# Altium footprint library Proto-Pi.PCBLIB: 27 footprints (part 2 of 2)
Each footprint in its own frame and in the unit in brackets; x right, y up, seen from the top. Pads: shape width x height; smd on the part's side, far side on the other; paste and mask are expansions set on the pad; w line width, h text height; cw(c..) or ccw(c..) is an arc to the next point about the centre after c.
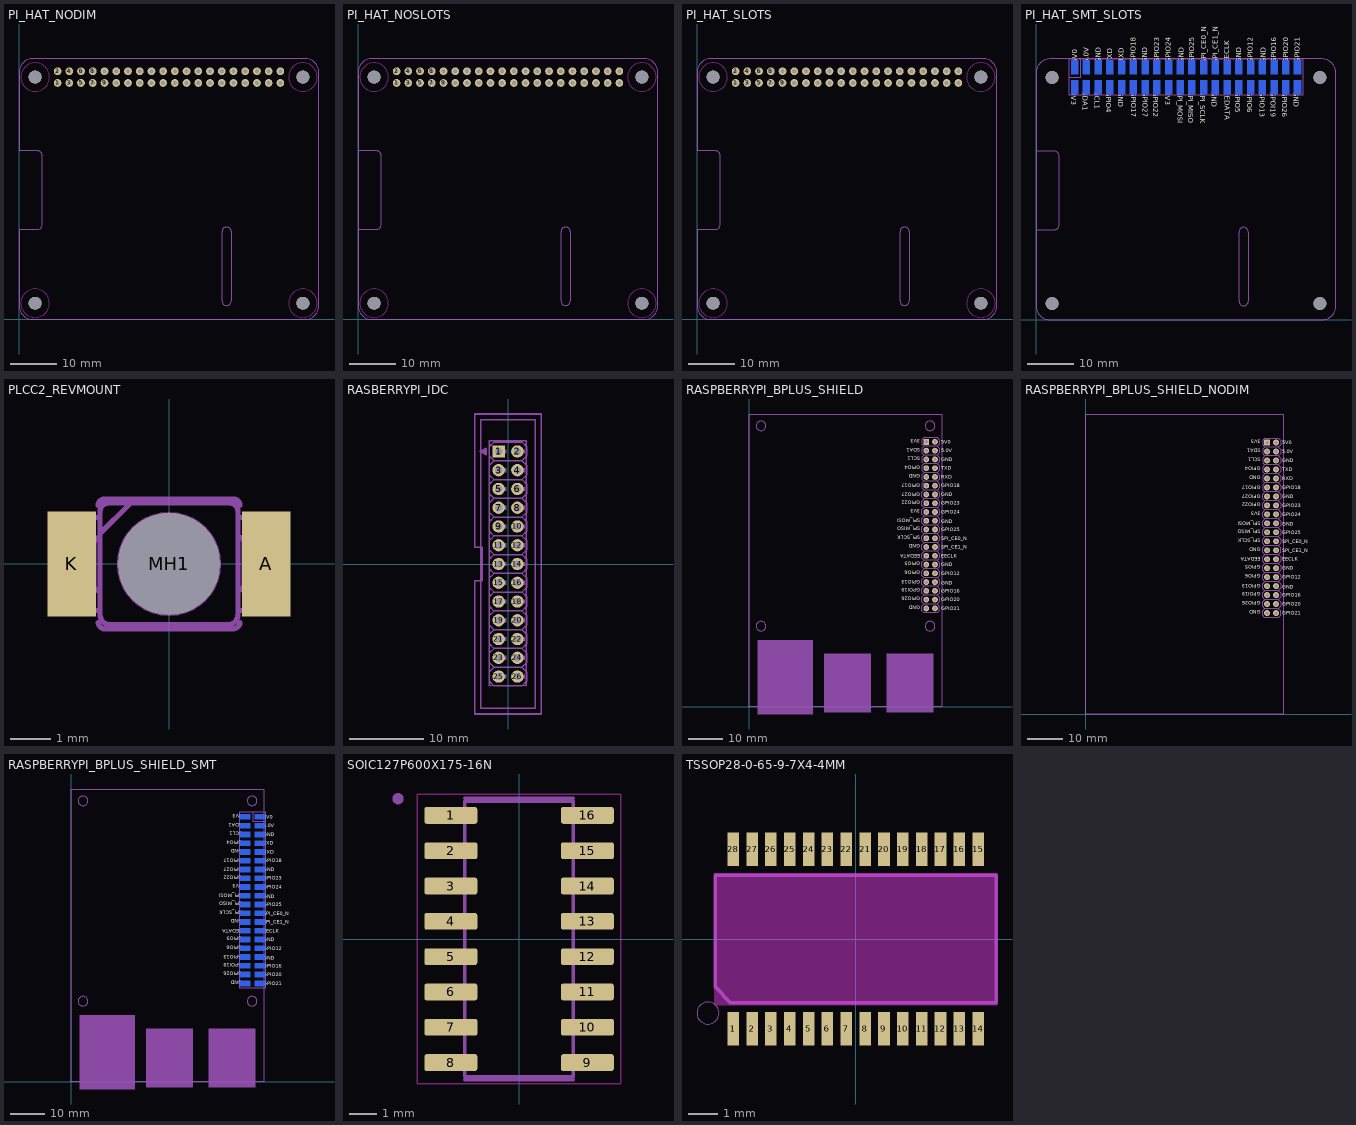
[diagram p1: the footprints below, top view; thin cyan lines are the x and y axes]

## PI_HAT_NODIM [mil]
pads (44):
  round 66 hole 35.43: 1(329.53,2016.93) 2(329.53,2116.93) 3(429.53,2016.93) 4(429.53,2116.93) 5(529.53,2016.93) 6(529.53,2116.93) 7(629.53,2016.93) 8(629.53,2116.93) 9(729.53,2016.93) 10(729.53,2116.93) 11(829.53,2016.93) 12(829.53,2116.93) 13(929.53,2016.93) 14(929.53,2116.93) 15(1029.53,2016.93) 16(1029.53,2116.93) 17(1129.53,2016.93) 18(1129.53,2116.93) 19(1229.53,2016.93) 20(1229.53,2116.93) 21(1329.53,2016.93) 22(1329.53,2116.93) 23(1429.53,2016.93) 24(1429.53,2116.93) 25(1529.53,2016.93) 26(1529.53,2116.93) 27(1629.53,2016.93) 28(1629.53,2116.93) 29(1729.53,2016.93) 30(1729.53,2116.93) 31(1829.53,2016.93) 32(1829.53,2116.93) 33(1929.53,2016.93) 34(1929.53,2116.93) 35(2029.53,2016.93) 36(2029.53,2116.93) 37(2129.53,2016.93) 38(2129.53,2116.93) 39(2229.53,2016.93) 40(2229.53,2116.93)
  round 110.24 hole 110.24 unplated: MH1(137.8,137.8) MH2(137.8,2066.93) MH3(2421.26,2066.93) MH4(2421.26,137.8)
Top keep-out:
  circle w0: c137.8,137.8 r122.05
  circle w0: c2421.26,137.8 r122.05
  circle w0: c137.8,2066.93 r122.05
  circle w0: c2421.26,2066.93 r122.05
tPlace:
  lines w0: 0,118.11 0,767.72 157.48,767.72 ccw(c157.48,807.09) 196.85,807.09 196.85,1397.64 ccw(c157.48,1397.64) 157.48,1437.01 0,1437.01 0,2106.3 cw(c118.11,2106.3) 118.11,2224.41 2440.94,2224.41 cw(c2440.95,2106.3) 2559.06,2106.3 2559.06,118.11 cw(c2440.95,118.11) 2440.94,0 118.11,0 cw(c118.11,118.11) 0,118.11 ; 1732.28,157.48 ccw(c1771.65,157.48) 1771.65,118.11 ccw(c1771.65,157.48) 1811.02,157.48 1811.02,748.03 ccw(c1771.65,748.03) 1771.65,787.4 ccw(c1771.65,748.03) 1732.28,748.03 1732.28,157.48

## PI_HAT_NOSLOTS [mil]
pads (44):
  round 66 hole 35.43: 1(329.53,2016.93) 2(329.53,2116.93) 3(429.53,2016.93) 4(429.53,2116.93) 5(529.53,2016.93) 6(529.53,2116.93) 7(629.53,2016.93) 8(629.53,2116.93) 9(729.53,2016.93) 10(729.53,2116.93) 11(829.53,2016.93) 12(829.53,2116.93) 13(929.53,2016.93) 14(929.53,2116.93) 15(1029.53,2016.93) 16(1029.53,2116.93) 17(1129.53,2016.93) 18(1129.53,2116.93) 19(1229.53,2016.93) 20(1229.53,2116.93) 21(1329.53,2016.93) 22(1329.53,2116.93) 23(1429.53,2016.93) 24(1429.53,2116.93) 25(1529.53,2016.93) 26(1529.53,2116.93) 27(1629.53,2016.93) 28(1629.53,2116.93) 29(1729.53,2016.93) 30(1729.53,2116.93) 31(1829.53,2016.93) 32(1829.53,2116.93) 33(1929.53,2016.93) 34(1929.53,2116.93) 35(2029.53,2016.93) 36(2029.53,2116.93) 37(2129.53,2016.93) 38(2129.53,2116.93) 39(2229.53,2016.93) 40(2229.53,2116.93)
  round 110.24 hole 110.24 unplated: MH1(137.8,137.8) MH2(137.8,2066.93) MH3(2421.26,2066.93) MH4(2421.26,137.8)
Top keep-out:
  circle w0: c137.8,137.8 r122.05
  circle w0: c2421.26,137.8 r122.05
  circle w0: c137.8,2066.93 r122.05
  circle w0: c2421.26,2066.93 r122.05
Dimension:
  lines w0: 0,118.11 0,2106.3 cw(c118.11,2106.3) 118.11,2224.41 2440.94,2224.41 cw(c2440.95,2106.3) 2559.06,2106.3 2559.06,118.11 cw(c2440.95,118.11) 2440.94,0 118.11,0 cw(c118.11,118.11) 0,118.11
Reference:
  lines w5: 0,1437.01 157.48,1437.01 cw(c157.48,1397.64) 196.85,1397.64 196.85,807.09 cw(c157.48,807.09) 157.48,767.72 3.94,767.72 ; 1732.28,157.48 ccw(c1771.65,157.48) 1771.65,118.11 ccw(c1771.65,157.48) 1811.02,157.48 1811.02,748.03 ccw(c1771.65,748.03) 1771.65,787.4 ccw(c1771.65,748.03) 1732.28,748.03 1732.28,157.48

## PI_HAT_SLOTS [mil]
pads (44):
  round 66 hole 35.43: 1(329.53,2016.93) 2(329.53,2116.93) 3(429.53,2016.93) 4(429.53,2116.93) 5(529.53,2016.93) 6(529.53,2116.93) 7(629.53,2016.93) 8(629.53,2116.93) 9(729.53,2016.93) 10(729.53,2116.93) 11(829.53,2016.93) 12(829.53,2116.93) 13(929.53,2016.93) 14(929.53,2116.93) 15(1029.53,2016.93) 16(1029.53,2116.93) 17(1129.53,2016.93) 18(1129.53,2116.93) 19(1229.53,2016.93) 20(1229.53,2116.93) 21(1329.53,2016.93) 22(1329.53,2116.93) 23(1429.53,2016.93) 24(1429.53,2116.93) 25(1529.53,2016.93) 26(1529.53,2116.93) 27(1629.53,2016.93) 28(1629.53,2116.93) 29(1729.53,2016.93) 30(1729.53,2116.93) 31(1829.53,2016.93) 32(1829.53,2116.93) 33(1929.53,2016.93) 34(1929.53,2116.93) 35(2029.53,2016.93) 36(2029.53,2116.93) 37(2129.53,2016.93) 38(2129.53,2116.93) 39(2229.53,2016.93) 40(2229.53,2116.93)
  round 110.24 hole 110.24 unplated: MH1(137.8,137.8) MH2(137.8,2066.93) MH3(2421.26,2066.93) MH4(2421.26,137.8)
Top keep-out:
  circle w0: c137.8,137.8 r122.05
  circle w0: c2421.26,137.8 r122.05
  circle w0: c137.8,2066.93 r122.05
  circle w0: c2421.26,2066.93 r122.05
Dimension:
  lines w0: 0,118.11 0,767.72 157.48,767.72 ccw(c157.48,807.09) 196.85,807.09 196.85,1397.64 ccw(c157.48,1397.64) 157.48,1437.01 0,1437.01 0,2106.3 cw(c118.11,2106.3) 118.11,2224.41 2440.94,2224.41 cw(c2440.95,2106.3) 2559.06,2106.3 2559.06,118.11 cw(c2440.95,118.11) 2440.94,0 118.11,0 cw(c118.11,118.11) 0,118.11 ; 1732.28,157.48 ccw(c1771.65,157.48) 1771.65,118.11 ccw(c1771.65,157.48) 1811.02,157.48 1811.02,748.03 ccw(c1771.65,748.03) 1771.65,787.4 ccw(c1771.65,748.03) 1732.28,748.03 1732.28,157.48

## PI_HAT_SMT_SLOTS [mil]
pads (44):
  rect 60x120 smd far side: 1(330.51,1982.24) 2(330.51,2152.24) 3(430.51,1982.24) 4(430.51,2152.24) 5(530.51,1982.24) 6(530.51,2152.24) 7(630.51,1982.24) 8(630.51,2152.24) 9(730.51,1982.24) 10(730.51,2152.24) 11(830.51,1982.24) 12(830.51,2152.24) 13(930.51,1982.24) 14(930.51,2152.24) 15(1030.51,1982.24) 16(1030.51,2152.24) 17(1130.51,1982.24) 18(1130.51,2152.24) 19(1230.51,1982.24) 20(1230.51,2152.24) 21(1330.51,1982.24) 22(1330.51,2152.24) 23(1430.51,1982.24) 24(1430.51,2152.24) 25(1530.51,1982.24) 26(1530.51,2152.24) 27(1630.51,1982.24) 28(1630.51,2152.24) 29(1730.51,1982.24) 30(1730.51,2152.24) 31(1830.51,1982.24) 32(1830.51,2152.24) 33(1930.51,1982.24) 34(1930.51,2152.24) 35(2030.51,1982.24) 36(2030.51,2152.24) 37(2130.51,1982.24) 38(2130.51,2152.24) 39(2230.51,1982.24) 40(2230.51,2152.24)
  round 110.24 hole 110.24 unplated: MH1(137.8,137.8) MH2(137.8,2066.93) MH3(2421.26,2066.93) MH4(2421.26,137.8)
Top Overlay:
  text "5V0" at 350.51,2187.52 h42.5
  text "5.0V" at 450.51,2187.52 h42.5
  text "GND" at 550.51,2187.52 h42.5
  text "TXD" at 650.51,2187.52 h42.5
  text "RXD" at 750.51,2187.52 h42.5
  text "GPIO18" at 850.51,2187.52 h42.5
  text "GND" at 950.51,2187.52 h42.5
  text "GPIO23" at 1050.51,2187.52 h42.5
  text "GPIO24" at 1150.51,2187.52 h42.5
  text "GND" at 1260.51,2187.52 h42.5
  text "GPIO25" at 1350.51,2187.52 h42.5
  text "SPI_CE0_N" at 1450.51,2187.52 h42.5
  text "SPI_CE1_N" at 1550.51,2187.52 h42.5
  text "3V3" at 300.51,1947.52 h42.5
  text "SDA1" at 400.51,1947.52 h42.5
  text "SCL1" at 500.51,1947.52 h42.5
  text "GPIO4" at 600.51,1947.52 h42.5
  text "GND" at 700.51,1947.52 h42.5
  text "GPIO17" at 810.51,1947.52 h42.5
  text "GPIO27" at 910.51,1947.52 h42.5
  text "GPIO22" at 1000.51,1947.52 h42.5
  text "3V3" at 1100.51,1947.52 h42.5
  text "SPI_MOSI" at 1210.51,1947.52 h42.5
  text "SPI_MISO" at 1300.51,1947.52 h42.5
  text "SPI_SCLK" at 1400.51,1947.52 h42.5
  text "GND" at 1500.51,1947.52 h42.5
  text "EECLK" at 1650.51,2187.52 h42.5
  text "GND" at 1750.51,2187.52 h42.5
  text "GPIO12" at 1850.51,2187.52 h42.5
  text "GND" at 1960.51,2187.52 h42.5
  text "GPIO16" at 2050.51,2187.52 h42.5
  text "GPIO20" at 2150.51,2187.52 h42.5
  text "GPIO21" at 2250.51,2187.52 h42.5
  text "EEDATA" at 1610.51,1947.52 h42.5
  text "GPIO5" at 1700.51,1947.52 h42.5
  text "GPIO6" at 1800.51,1947.52 h42.5
  text "GPIO13" at 1910.51,1947.52 h42.5
  text "GPOI19" at 2000.51,1947.52 h42.5
  text "GPIO26" at 2100.51,1947.52 h42.5
  text "GND" at 2200.51,1947.52 h42.5
Dimension:
  lines w0: 3.94,767.72 157.48,767.72 ccw(c157.48,807.09) 196.85,807.09 196.85,1397.64 ccw(c157.48,1397.64) 157.48,1437.01 0,1437.01 ; 0,1437.01 0,2106.3 cw(c118.11,2106.3) 118.11,2224.41 2440.94,2224.41 cw(c2440.95,2106.3) 2559.06,2106.3 2559.06,118.11 cw(c2440.95,118.11) 2440.94,0 118.11,0 cw(c118.11,118.11) 0,118.11 0,1437.01 ; 1732.28,157.48 ccw(c1771.65,157.48) 1771.65,118.11 ccw(c1771.65,157.48) 1811.02,157.48 1811.02,748.03 ccw(c1771.65,748.03) 1771.65,787.4 ccw(c1771.65,748.03) 1732.28,748.03 1732.28,157.48
tDocu:
  drawing of 40 lines, arcs and shapes, not listed
bPlace:
  lines w8: 280.51,2067.24 280.51,2222.36 380.91,2221.97 ; 280.51,2067.24 280.51,1917.24 2280.51,1917.24 2281.3,2221.97 380.91,2221.97 ; 280.51,2067.24 380.51,2067.24 380.91,2221.97

## PLCC2_REVMOUNT [mil]
pads (3):
  rect 47.24x102.36 smd: A(94.49,0) K(-94.49,0)
  round 98.43 hole 98.43 unplated: MH1(0,0)
tDocu:
  circle w5: c0,0 r48.06
  lines w5: -66.93,-45.28 -66.93,-49.21 ccw(c-57.09,-49.22) -57.09,-59.06 57.09,-59.06 ccw(c57.09,-49.22) 66.93,-49.21 66.93,-45.28 ; -66.93,-45.28 -104.33,-45.28 -104.33,45.28 -66.93,45.28 ; -66.93,-45.28 -66.93,-25.59 ; -66.93,-25.59 -66.93,25.59 ; -66.93,-25.59 -68.9,-25.59 cw(c-68.89,-21.66) -72.83,-21.65 -72.83,19.69 cw(c-66.93,19.69) -66.93,25.59 ; -66.93,25.59 -66.93,29.53 ; -66.93,29.53 -66.93,45.28 ; -66.93,29.53 -37.4,59.06 ; -66.93,45.28 -66.93,51.18 cw(c-59.05,51.19) -59.06,59.06 -37.4,59.06 ; -37.4,59.06 59.06,59.06 cw(c59.05,51.19) 66.93,51.18 66.93,45.28 ; 66.93,-45.28 106.3,-45.28 106.3,45.28 66.93,45.28 ; 66.93,-45.28 66.93,-25.59 ; 66.93,-25.59 66.93,25.59 ; 66.93,-25.59 ccw(c66.93,-19.69) 72.83,-19.69 72.83,21.65 ccw(c68.89,21.66) 68.9,25.59 66.93,25.59 ; 66.93,25.59 66.93,45.28 ; -31.5,0 ccw(c0,0) 0,-31.5 ccw(c0,0) 31.5,0 ccw(c0,0) 0,31.5 ccw(c0,0) -31.5,0
tPlace:
  lines w5: -68.9,-57.09 ccw(c-62.01,-56.1) -61.02,-62.99 61.02,-62.99 ccw(c62.01,-56.1) 68.9,-57.09 ; -68.9,57.09 cw(c-62.99,57.09) -62.99,62.99 62.99,62.99 cw(c62.99,57.09) 68.9,57.09

## RASBERRYPI_IDC [mil]
pads (26):
  rect 66x66 / inner round 60.98 / far side rect 66x66 hole 39.37: 1(-50,600)
  round 66 hole 39.37: 2(50,600) 3(-50,500) 4(50,500) 5(-50,400) 6(50,400) 7(-50,300) 8(50,300) 9(-50,200) 10(50,200) 11(-50,100) 12(50,100) 13(-50,0) 14(50,0) 15(-50,-100) 16(50,-100) 17(-50,-200) 18(50,-200) 19(-50,-300) 20(50,-300) 21(-50,-400) 22(50,-400) 23(-50,-500) 24(50,-500) 25(-50,-600) 26(50,-600)
tDocu:
  region: -30,610 -10,610 -10,590 -30,590
  region: 70,610 90,610 90,590 70,590
  region: 70,510 90,510 90,490 70,490
  region: -30,510 -10,510 -10,490 -30,490
  region: 70,410 90,410 90,390 70,390
  region: -30,410 -10,410 -10,390 -30,390
  region: 70,310 90,310 90,290 70,290
  region: 70,210 90,210 90,190 70,190
  region: 70,110 90,110 90,90 70,90
  region: -30,310 -10,310 -10,290 -30,290
  region: -30,210 -10,210 -10,190 -30,190
  region: -30,110 -10,110 -10,90 -30,90
  region: 70,10 90,10 90,-10 70,-10
  region: -30,10 -10,10 -10,-10 -30,-10
  region: 70,-90 90,-90 90,-110 70,-110
  region: -30,-90 -10,-90 -10,-110 -30,-110
  region: 70,-190 90,-190 90,-210 70,-210
  region: -30,-190 -10,-190 -10,-210 -30,-210
  region: 70,-290 90,-290 90,-310 70,-310
  region: -30,-290 -10,-290 -10,-310 -30,-310
  region: 70,-390 90,-390 90,-410 70,-410
  region: -30,-390 -10,-390 -10,-410 -30,-410
  region: 70,-490 90,-490 90,-510 70,-510
  region: -30,-490 -10,-490 -10,-510 -30,-510
  region: 70,-590 90,-590 90,-610 70,-610
  region: -30,-590 -10,-590 -10,-610 -30,-610
  lines w5: -99.92,-650 96.93,-650
  lines w8: -99.92,-650 -99.92,657.09 96.93,657.09 96.93,-650 ; -145.67,-768.11 -145.67,768.11 145.67,768.11 145.67,-768.11 -145.67,-768.11
tValues:
  text "5V0" at 220,580 h77.5
  text "DNC" at 220,480 h77.5
  text "GND" at 220,380 h77.5
  text "TXD" at 220,280 h77.5
  text "RXD" at 220,180 h77.5
  text "GPIO1" at 220,80 h77.5
  text "DNC" at 220,-20 h77.5
  text "GPIO4" at 220,-120 h77.5
  text "GPIO5" at 220,-220 h77.5
  text "DNC" at 220,-330 h77.5
  text "GPIO6" at 220,-420 h77.5
  text "SPI_CE0_N" at 220,-520 h77.5
  text "SPI_CE1_N" at 220,-620 h77.5
  text "3V3" at -220,630 h77.5
  text "SDA0" at -220,530 h77.5
  text "SCL0" at -220,430 h77.5
  text "GPIO7" at -220,330 h77.5
  text "DNC" at -220,230 h77.5
  text "GPIO0" at -220,120 h77.5
  text "GPIO2" at -220,20 h77.5
  text "GPIO3" at -220,-70 h77.5
  text "DNC" at -220,-170 h77.5
  text "SPI_MOSI" at -220,-280 h77.5
  text "SPI_MISO" at -220,-370 h77.5
  text "SPI_SCLK" at -220,-470 h77.5
  text "DNC" at -220,-570 h77.5
tPlace:
  region: -134,610 -124,610 -124,590 -134,590
  region: -124,615 -119,615 -119,600 -124,600
  region: -124,600 -119,600 -119,585 -124,585
  region: -142,605 -132,605 -132,595 -142,595
  lines w8: -140,600 -150,600 ; -150,600 -117,583 -117,617 -150,600 ; -75,-550 -100,-575 -100,-625 -75,-650 75,-650 100,-625 100,-575 75,-550 ; -75,-550 -100,-525 -100,-475 -75,-450 ; -75,-550 75,-550 ; -75,-450 -100,-425 -100,-375 -75,-350 ; -75,-450 75,-450 ; -75,-350 -100,-325 -100,-275 -75,-250 ; -75,-350 75,-350 ; -75,-250 -100,-225 -100,-175 -75,-150 ; -75,-250 75,-250 ; -75,-150 -100,-125 -100,-75 -75,-50 ; -75,-150 75,-150 ; -75,-50 -100,-25 -100,25 -75,50 ; -75,-50 75,-50 ; -75,50 -100,75 -100,125 -75,150 ; -75,50 75,50 ; -75,150 -100,175 -100,225 -75,250 ; -75,150 75,150 ; -75,250 -100,275 -100,325 -75,350 ; -75,250 75,250 ; -75,350 -100,375 -100,425 -75,450 ; -75,350 75,350 ; -75,450 -100,475 -100,525 -75,550 ; -75,450 75,450 ; -75,550 -100,575 -100,625 -75,650 75,650 100,625 100,575 75,550 ; -75,550 75,550 ; 75,-550 100,-525 100,-475 75,-450 ; 75,-450 100,-425 100,-375 75,-350 ; 75,-350 100,-325 100,-275 75,-250 ; 75,-250 100,-225 100,-175 75,-150 ; 75,-150 100,-125 100,-75 75,-50 ; 75,-50 100,-25 100,25 75,50 ; 75,50 100,75 100,125 75,150 ; 75,150 100,175 100,225 75,250 ; 75,250 100,275 100,325 75,350 ; 75,350 100,375 100,425 75,450 ; 75,450 100,475 100,525 75,550 ; -177.17,-799.61 177.17,-799.61 177.17,799.61 -177.17,799.61 -177.17,88.58 -137.8,88.58 -137.8,-88.58 -177.17,-88.58 -177.17,-799.61
  text "1" at -100,745 h93

## RASPBERRYPI_BPLUS_SHIELD [mil]
pads (40):
  rect 66x66 / inner round 60.98 / far side rect 66x66 hole 39.37: 1(2020.28,3025)
  round 66 hole 39.37: 2(2120.28,3025) 3(2020.28,2925) 4(2120.28,2925) 5(2020.28,2825) 6(2120.28,2825) 7(2020.28,2725) 8(2120.28,2725) 9(2020.28,2625) 10(2120.28,2625) 11(2020.28,2525) 12(2120.28,2525) 13(2020.28,2425) 14(2120.28,2425) 15(2020.28,2325) 16(2120.28,2325) 17(2020.28,2225) 18(2120.28,2225) 19(2020.28,2125) 20(2120.28,2125) 21(2020.28,2025) 22(2120.28,2025) 23(2020.28,1925) 24(2120.28,1925) 25(2020.28,1825) 26(2120.28,1825) 27(2020.28,1725) 28(2120.28,1725) 29(2020.28,1625) 30(2120.28,1625) 31(2020.28,1525) 32(2120.28,1525) 33(2020.28,1425) 34(2120.28,1425) 35(2020.28,1325) 36(2120.28,1325) 37(2020.28,1225) 38(2120.28,1225) 39(2020.28,1125) 40(2120.28,1125)
Top Overlay:
  text "5V0" at 2190.28,3005 h42.5
  text "5.0V" at 2190.28,2905 h42.5
  text "GND" at 2190.28,2805 h42.5
  text "TXD" at 2190.28,2705 h42.5
  text "RXD" at 2190.28,2605 h42.5
  text "GPIO18" at 2190.28,2505 h42.5
  text "GND" at 2190.28,2405 h42.5
  text "GPIO23" at 2190.28,2305 h42.5
  text "GPIO24" at 2190.28,2205 h42.5
  text "GND" at 2190.28,2095 h42.5
  text "GPIO25" at 2190.28,2005 h42.5
  text "SPI_CE0_N" at 2190.28,1905 h42.5
  text "SPI_CE1_N" at 2190.28,1805 h42.5
  text "3V3" at 1950.28,3055 h42.5
  text "SDA1" at 1950.28,2955 h42.5
  text "SCL1" at 1950.28,2855 h42.5
  text "GPIO4" at 1950.28,2755 h42.5
  text "GND" at 1950.28,2655 h42.5
  text "GPIO17" at 1950.28,2545 h42.5
  text "GPIO27" at 1950.28,2445 h42.5
  text "GPIO22" at 1950.28,2355 h42.5
  text "3V3" at 1950.28,2255 h42.5
  text "SPI_MOSI" at 1950.28,2145 h42.5
  text "SPI_MISO" at 1950.28,2055 h42.5
  text "SPI_SCLK" at 1950.28,1955 h42.5
  text "GND" at 1950.28,1855 h42.5
  text "EECLK" at 2190.28,1705 h42.5
  text "GND" at 2190.28,1605 h42.5
  text "GPIO12" at 2190.28,1505 h42.5
  text "GND" at 2190.28,1395 h42.5
  text "GPIO16" at 2190.28,1305 h42.5
  text "GPIO20" at 2190.28,1205 h42.5
  text "GPIO21" at 2190.28,1105 h42.5
  text "EEDATA" at 1950.28,1745 h42.5
  text "GPIO5" at 1950.28,1655 h42.5
  text "GPIO6" at 1950.28,1555 h42.5
  text "GPIO13" at 1950.28,1445 h42.5
  text "GPOI19" at 1950.28,1355 h42.5
  text "GPIO26" at 1950.28,1255 h42.5
  text "GND" at 1950.28,1155 h42.5
Dimension:
  lines w5: 0,0 0,3343 2200,3343 2200,0 0,0
tDocu:
  drawing of 44 lines, arcs and shapes, not listed
bDocu:
  region: 100,-80 100,760 725,760 725,-80
  region: 1570,-60 1570,610 2100,610 2100,-60
  region: 855,-60 855,610 1385,610 1385,-60
tPlace:
  lines w6: 1995.28,1075 1970.28,1100 1970.28,1150 1995.28,1175 1970.28,1200 1970.28,1250 1995.28,1275 1970.28,1300 1970.28,1350 1995.28,1375 1970.28,1400 1970.28,1450 1995.28,1475 1970.28,1500 1970.28,1550 1995.28,1575 1970.28,1600 1970.28,1650 1995.28,1675 1970.28,1700 1970.28,1750 1995.28,1775 1970.28,1800 1970.28,1850 1995.28,1875 1970.28,1900 1970.28,1950 1995.28,1975 1970.28,2000 1970.28,2050 1995.28,2075 1970.28,2100 1970.28,2150 1995.28,2175 1970.28,2200 1970.28,2250 1995.28,2275 1970.28,2300 1970.28,2350 1995.28,2375 1970.28,2400 1970.28,2450 1995.28,2475 1970.28,2500 1970.28,2550 1995.28,2575 1970.28,2600 1970.28,2650 1995.28,2675 1970.28,2700 1970.28,2750 1995.28,2775 1970.28,2800 1970.28,2850 1995.28,2875 1970.28,2900 1970.28,2950 1995.28,2975 1970.28,3000 1970.28,3050 1995.28,3075
  lines w8: 1995.28,1075 2145.28,1075 2170.28,1100 2170.28,1150 2145.28,1175 ; 1995.28,1175 2145.28,1175 ; 1995.28,1275 2145.28,1275 ; 1995.28,1375 2145.28,1375 ; 1995.28,1475 2145.28,1475 ; 1995.28,1575 2145.28,1575 ; 1995.28,1675 2145.28,1675 ; 1995.28,1775 2145.28,1775 ; 1995.28,1875 2145.28,1875 ; 1995.28,1975 2145.28,1975 ; 1995.28,2075 2145.28,2075 ; 1995.28,2175 2145.28,2175 ; 1995.28,2275 2145.28,2275 ; 1995.28,2375 2145.28,2375 ; 1995.28,2475 2145.28,2475 ; 1995.28,2575 2145.28,2575 ; 1995.28,2675 2145.28,2675 ; 1995.28,2775 2145.28,2775 ; 1995.28,2875 2145.28,2875 ; 1995.28,2975 2145.28,2975 ; 1995.28,3075 2145.28,3075 2170.28,3050 2170.28,3000 2145.28,2975 ; 2145.28,1175 2170.28,1200 2170.28,1250 2145.28,1275 ; 2145.28,1275 2170.28,1300 2170.28,1350 2145.28,1375 ; 2145.28,1375 2170.28,1400 2170.28,1450 2145.28,1475 ; 2145.28,1475 2170.28,1500 2170.28,1550 2145.28,1575 ; 2145.28,1575 2170.28,1600 2170.28,1650 2145.28,1675 ; 2145.28,1675 2170.28,1700 2170.28,1750 2145.28,1775 ; 2145.28,1775 2170.28,1800 2170.28,1850 2145.28,1875 ; 2145.28,1875 2170.28,1900 2170.28,1950 2145.28,1975 ; 2145.28,1975 2170.28,2000 2170.28,2050 2145.28,2075 ; 2145.28,2075 2170.28,2100 2170.28,2150 2145.28,2175 ; 2145.28,2175 2170.28,2200 2170.28,2250 2145.28,2275 ; 2145.28,2275 2170.28,2300 2170.28,2350 2145.28,2375 ; 2145.28,2375 2170.28,2400 2170.28,2450 2145.28,2475 ; 2145.28,2475 2170.28,2500 2170.28,2550 2145.28,2575 ; 2145.28,2575 2170.28,2600 2170.28,2650 2145.28,2675 ; 2145.28,2675 2170.28,2700 2170.28,2750 2145.28,2775 ; 2145.28,2775 2170.28,2800 2170.28,2850 2145.28,2875 ; 2145.28,2875 2170.28,2900 2170.28,2950 2145.28,2975

## RASPBERRYPI_BPLUS_SHIELD_NODIM [mil]
pads (40):
  rect 66x66 / inner round 60.98 / far side rect 66x66 hole 39.37: 1(2020.28,3025)
  round 66 hole 39.37: 2(2120.28,3025) 3(2020.28,2925) 4(2120.28,2925) 5(2020.28,2825) 6(2120.28,2825) 7(2020.28,2725) 8(2120.28,2725) 9(2020.28,2625) 10(2120.28,2625) 11(2020.28,2525) 12(2120.28,2525) 13(2020.28,2425) 14(2120.28,2425) 15(2020.28,2325) 16(2120.28,2325) 17(2020.28,2225) 18(2120.28,2225) 19(2020.28,2125) 20(2120.28,2125) 21(2020.28,2025) 22(2120.28,2025) 23(2020.28,1925) 24(2120.28,1925) 25(2020.28,1825) 26(2120.28,1825) 27(2020.28,1725) 28(2120.28,1725) 29(2020.28,1625) 30(2120.28,1625) 31(2020.28,1525) 32(2120.28,1525) 33(2020.28,1425) 34(2120.28,1425) 35(2020.28,1325) 36(2120.28,1325) 37(2020.28,1225) 38(2120.28,1225) 39(2020.28,1125) 40(2120.28,1125)
Top Overlay:
  text "5V0" at 2190.28,3005 h42.5
  text "5.0V" at 2190.28,2905 h42.5
  text "GND" at 2190.28,2805 h42.5
  text "TXD" at 2190.28,2705 h42.5
  text "RXD" at 2190.28,2605 h42.5
  text "GPIO18" at 2190.28,2505 h42.5
  text "GND" at 2190.28,2405 h42.5
  text "GPIO23" at 2190.28,2305 h42.5
  text "GPIO24" at 2190.28,2205 h42.5
  text "GND" at 2190.28,2095 h42.5
  text "GPIO25" at 2190.28,2005 h42.5
  text "SPI_CE0_N" at 2190.28,1905 h42.5
  text "SPI_CE1_N" at 2190.28,1805 h42.5
  text "3V3" at 1950.28,3055 h42.5
  text "SDA1" at 1950.28,2955 h42.5
  text "SCL1" at 1950.28,2855 h42.5
  text "GPIO4" at 1950.28,2755 h42.5
  text "GND" at 1950.28,2655 h42.5
  text "GPIO17" at 1950.28,2545 h42.5
  text "GPIO27" at 1950.28,2445 h42.5
  text "GPIO22" at 1950.28,2355 h42.5
  text "3V3" at 1950.28,2255 h42.5
  text "SPI_MOSI" at 1950.28,2145 h42.5
  text "SPI_MISO" at 1950.28,2055 h42.5
  text "SPI_SCLK" at 1950.28,1955 h42.5
  text "GND" at 1950.28,1855 h42.5
  text "EECLK" at 2190.28,1705 h42.5
  text "GND" at 2190.28,1605 h42.5
  text "GPIO12" at 2190.28,1505 h42.5
  text "GND" at 2190.28,1395 h42.5
  text "GPIO16" at 2190.28,1305 h42.5
  text "GPIO20" at 2190.28,1205 h42.5
  text "GPIO21" at 2190.28,1105 h42.5
  text "EEDATA" at 1950.28,1745 h42.5
  text "GPIO5" at 1950.28,1655 h42.5
  text "GPIO6" at 1950.28,1555 h42.5
  text "GPIO13" at 1950.28,1445 h42.5
  text "GPOI19" at 1950.28,1355 h42.5
  text "GPIO26" at 1950.28,1255 h42.5
  text "GND" at 1950.28,1155 h42.5
tDocu:
  lines w5: 0,0 0,3343 2200,3343 2200,0 0,0
tPlace:
  lines w6: 1995.28,1075 1970.28,1100 1970.28,1150 1995.28,1175 1970.28,1200 1970.28,1250 1995.28,1275 1970.28,1300 1970.28,1350 1995.28,1375 1970.28,1400 1970.28,1450 1995.28,1475 1970.28,1500 1970.28,1550 1995.28,1575 1970.28,1600 1970.28,1650 1995.28,1675 1970.28,1700 1970.28,1750 1995.28,1775 1970.28,1800 1970.28,1850 1995.28,1875 1970.28,1900 1970.28,1950 1995.28,1975 1970.28,2000 1970.28,2050 1995.28,2075 1970.28,2100 1970.28,2150 1995.28,2175 1970.28,2200 1970.28,2250 1995.28,2275 1970.28,2300 1970.28,2350 1995.28,2375 1970.28,2400 1970.28,2450 1995.28,2475 1970.28,2500 1970.28,2550 1995.28,2575 1970.28,2600 1970.28,2650 1995.28,2675 1970.28,2700 1970.28,2750 1995.28,2775 1970.28,2800 1970.28,2850 1995.28,2875 1970.28,2900 1970.28,2950 1995.28,2975 1970.28,3000 1970.28,3050 1995.28,3075
  lines w8: 1995.28,1075 2145.28,1075 2170.28,1100 2170.28,1150 2145.28,1175 ; 1995.28,1175 2145.28,1175 ; 1995.28,1275 2145.28,1275 ; 1995.28,1375 2145.28,1375 ; 1995.28,1475 2145.28,1475 ; 1995.28,1575 2145.28,1575 ; 1995.28,1675 2145.28,1675 ; 1995.28,1775 2145.28,1775 ; 1995.28,1875 2145.28,1875 ; 1995.28,1975 2145.28,1975 ; 1995.28,2075 2145.28,2075 ; 1995.28,2175 2145.28,2175 ; 1995.28,2275 2145.28,2275 ; 1995.28,2375 2145.28,2375 ; 1995.28,2475 2145.28,2475 ; 1995.28,2575 2145.28,2575 ; 1995.28,2675 2145.28,2675 ; 1995.28,2775 2145.28,2775 ; 1995.28,2875 2145.28,2875 ; 1995.28,2975 2145.28,2975 ; 1995.28,3075 2145.28,3075 2170.28,3050 2170.28,3000 2145.28,2975 ; 2145.28,1175 2170.28,1200 2170.28,1250 2145.28,1275 ; 2145.28,1275 2170.28,1300 2170.28,1350 2145.28,1375 ; 2145.28,1375 2170.28,1400 2170.28,1450 2145.28,1475 ; 2145.28,1475 2170.28,1500 2170.28,1550 2145.28,1575 ; 2145.28,1575 2170.28,1600 2170.28,1650 2145.28,1675 ; 2145.28,1675 2170.28,1700 2170.28,1750 2145.28,1775 ; 2145.28,1775 2170.28,1800 2170.28,1850 2145.28,1875 ; 2145.28,1875 2170.28,1900 2170.28,1950 2145.28,1975 ; 2145.28,1975 2170.28,2000 2170.28,2050 2145.28,2075 ; 2145.28,2075 2170.28,2100 2170.28,2150 2145.28,2175 ; 2145.28,2175 2170.28,2200 2170.28,2250 2145.28,2275 ; 2145.28,2275 2170.28,2300 2170.28,2350 2145.28,2375 ; 2145.28,2375 2170.28,2400 2170.28,2450 2145.28,2475 ; 2145.28,2475 2170.28,2500 2170.28,2550 2145.28,2575 ; 2145.28,2575 2170.28,2600 2170.28,2650 2145.28,2675 ; 2145.28,2675 2170.28,2700 2170.28,2750 2145.28,2775 ; 2145.28,2775 2170.28,2800 2170.28,2850 2145.28,2875 ; 2145.28,2875 2170.28,2900 2170.28,2950 2145.28,2975

## RASPBERRYPI_BPLUS_SHIELD_SMT [mil]
pads (40):
  rect 120x60 smd far side: 1(1985,3025) 2(2155,3025) 3(1985,2925) 4(2155,2925) 5(1985,2825) 6(2155,2825) 7(1985,2725) 8(2155,2725) 9(1985,2625) 10(2155,2625) 11(1985,2525) 12(2155,2525) 13(1985,2425) 14(2155,2425) 15(1985,2325) 16(2155,2325) 17(1985,2225) 18(2155,2225) 19(1985,2125) 20(2155,2125) 21(1985,2025) 22(2155,2025) 23(1985,1925) 24(2155,1925) 25(1985,1825) 26(2155,1825) 27(1985,1725) 28(2155,1725) 29(1985,1625) 30(2155,1625) 31(1985,1525) 32(2155,1525) 33(1985,1425) 34(2155,1425) 35(1985,1325) 36(2155,1325) 37(1985,1225) 38(2155,1225) 39(1985,1125) 40(2155,1125)
Top Overlay:
  text "5V0" at 2190.28,3005 h42.5
  text "5.0V" at 2190.28,2905 h42.5
  text "GND" at 2190.28,2805 h42.5
  text "TXD" at 2190.28,2705 h42.5
  text "RXD" at 2190.28,2605 h42.5
  text "GPIO18" at 2190.28,2505 h42.5
  text "GND" at 2190.28,2405 h42.5
  text "GPIO23" at 2190.28,2305 h42.5
  text "GPIO24" at 2190.28,2205 h42.5
  text "GND" at 2190.28,2095 h42.5
  text "GPIO25" at 2190.28,2005 h42.5
  text "SPI_CE0_N" at 2190.28,1905 h42.5
  text "SPI_CE1_N" at 2190.28,1805 h42.5
  text "3V3" at 1950.28,3055 h42.5
  text "SDA1" at 1950.28,2955 h42.5
  text "SCL1" at 1950.28,2855 h42.5
  text "GPIO4" at 1950.28,2755 h42.5
  text "GND" at 1950.28,2655 h42.5
  text "GPIO17" at 1950.28,2545 h42.5
  text "GPIO27" at 1950.28,2445 h42.5
  text "GPIO22" at 1950.28,2355 h42.5
  text "3V3" at 1950.28,2255 h42.5
  text "SPI_MOSI" at 1950.28,2145 h42.5
  text "SPI_MISO" at 1950.28,2055 h42.5
  text "SPI_SCLK" at 1950.28,1955 h42.5
  text "GND" at 1950.28,1855 h42.5
  text "EECLK" at 2190.28,1705 h42.5
  text "GND" at 2190.28,1605 h42.5
  text "GPIO12" at 2190.28,1505 h42.5
  text "GND" at 2190.28,1395 h42.5
  text "GPIO16" at 2190.28,1305 h42.5
  text "GPIO20" at 2190.28,1205 h42.5
  text "GPIO21" at 2190.28,1105 h42.5
  text "EEDATA" at 1950.28,1745 h42.5
  text "GPIO5" at 1950.28,1655 h42.5
  text "GPIO6" at 1950.28,1555 h42.5
  text "GPIO13" at 1950.28,1445 h42.5
  text "GPOI19" at 1950.28,1355 h42.5
  text "GPIO26" at 1950.28,1255 h42.5
  text "GND" at 1950.28,1155 h42.5
tDocu:
  drawing of 48 lines, arcs and shapes, not listed
bDocu:
  region: 100,-80 100,760 725,760 725,-80
  region: 1570,-60 1570,610 2100,610 2100,-60
  region: 855,-60 855,610 1385,610 1385,-60
bPlace:
  lines w8: 2070,3075 2220,3075 2220,2975 ; 2070,3075 1920,3075 1920,1075 2220,1075 2220,2975 ; 2070,3075 2070,2975 2220,2975

## SOIC127P600X175-16N [mil]
pads (16):
  rrect25% 74.8x23.62 smd: 1(-96.65,175) 2(-96.65,125) 3(-96.65,75) 4(-96.65,25) 5(-96.65,-25) 6(-96.65,-75) 7(-96.65,-125) 8(-96.65,-175) 9(96.65,-175) 10(96.65,-125) 11(96.65,-75) 12(96.65,-25) 13(96.65,25) 14(96.65,75) 15(96.65,125) 16(96.65,175)
Top keep-out:
  lines w1.97: -143.9,-204.72 143.9,-204.72 143.9,204.72 -143.9,204.72 -143.9,-204.72
tDocu:
  circle w7.87: c-171.46,198.62 r3.94
  lines w5: -76.77,-194.88 76.77,-194.88 76.77,194.88 -76.77,194.88 -76.77,-194.88
tPlace:
  circle w7.87: c-171.46,198.62 r3.94
  lines w5: -76.77,-199.41 76.77,-199.41 ; -76.77,199.41 76.77,199.41

## TSSOP28-0-65-9-7X4-4MM [mil]
pads (28):
  rect 15.75x45.28 smd: 1(-166.34,-122.05) 2(-140.75,-122.05) 3(-115.16,-122.05) 4(-89.57,-122.05) 5(-63.98,-122.05) 6(-38.39,-122.05) 7(-12.8,-122.05) 8(12.8,-122.05) 9(38.39,-122.05) 10(63.98,-122.05) 11(89.57,-122.05) 12(115.16,-122.05) 13(140.75,-122.05) 14(166.34,-122.05) 15(166.34,122.05) 16(140.75,122.05) 17(115.16,122.05) 18(89.57,122.05) 19(63.98,122.05) 20(38.39,122.05) 21(12.8,122.05) 22(-12.8,122.05) 23(-38.39,122.05) 24(-63.98,122.05) 25(-89.57,122.05) 26(-115.16,122.05) 27(-140.75,122.05) 28(-166.34,122.05)
Top keep-out:
  region: -192.16,-89.68 -192.16,89.57 191.93,89.57 191.93,-89.68
tPlace:
  circle w0: c-200.59,-100.59 r15
  lines w5: -190.94,-64.74 -170.05,-86.61 190.94,-86.61 190.94,86.61 -190.94,86.61 -190.94,-64.74